# EAGLE library part USB_2PSHIELD- (library barthess)
Triple USB Connector Source: www.cypressindustries.com
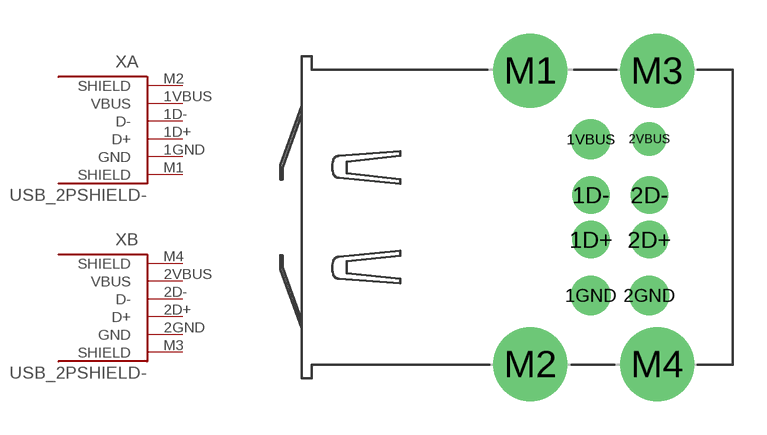
[diagram p18: symbol with the pads of 2_USB_A_ANGLE; footprint 2_USB_A_ANGLE]

Designator prefix X; gates A=USB4 B=USB4

## USB_2PSHIELD- (OC_FARNELL: unknown; OC_NEWARK: unknown)  [2_USB_A_ANGLE]
1D+  A:D+
1D-  A:D-
1GND  A:GND  pwr
1VBUS  A:VBUS  pwr
2D+  B:D+
2D-  B:D-
2GND  B:GND  pwr
2VBUS  B:VBUS  pwr
M1  A:SHIELD  pas
M2  A:SHIELD  pas
M3  B:SHIELD  pas
M4  B:SHIELD  pas

## Footprint 2_USB_A_ANGLE (pad centres in mm)
USB A TYPE TRIPLE R/A DIP Source: http://www.cypressindustries.com/pdf/85-32003-00x-1.pdf
drill 1 pad 1.676: 1D+ 2.71,-1; 1D- 2.71,1; 2D+ 5.33,-1; 2D- 5.33,1
drill 1 pad 1.778: 1GND 2.71,-3.5; 1VBUS 2.71,3.5; 2GND 5.33,-3.5
drill 1: 2VBUS 5.33,3.5
drill 2.3: M1 0,6.57; M2 0,-6.57; M3 5.68,6.57; M4 5.68,-6.57